# Altium integrated library Microchip PIC18.IntLib: 1897 symbols (part 36 of 110)
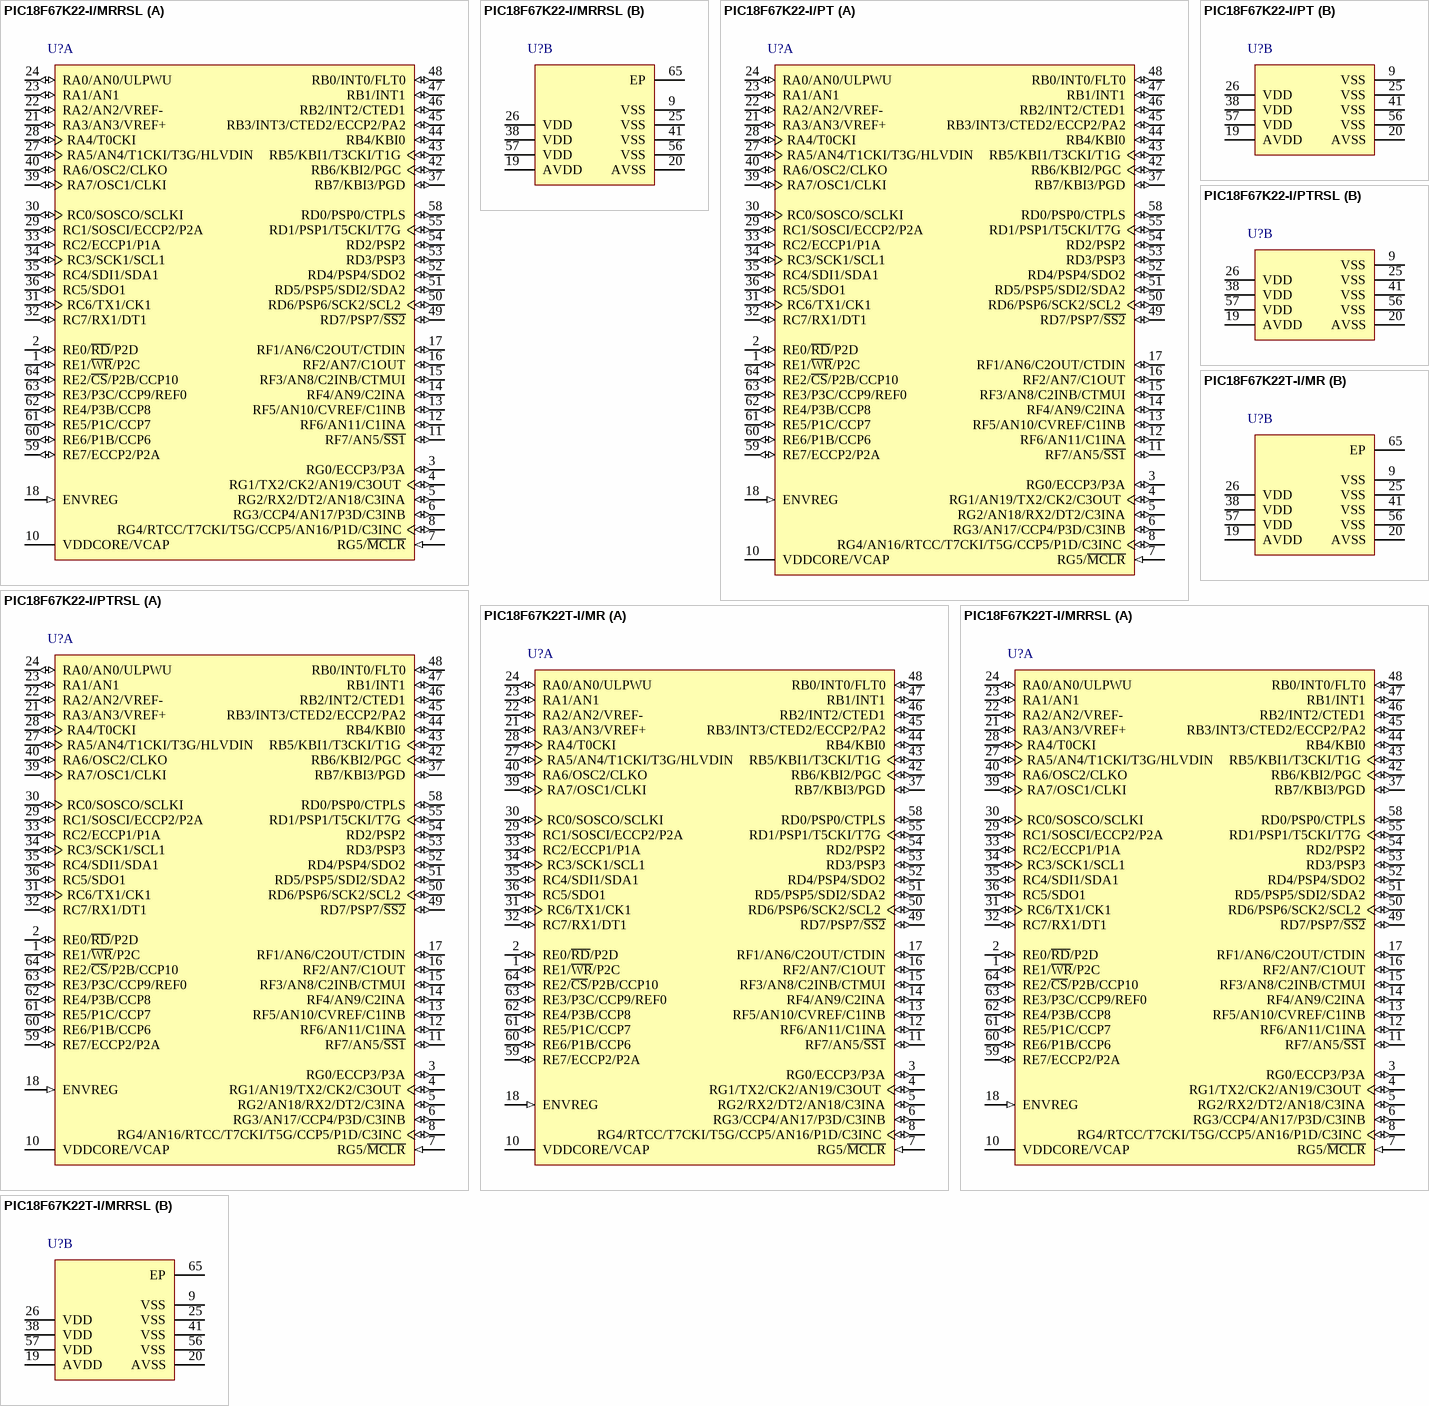
[diagram p340: symbols PIC18F67K22-I/MRRSL to PIC18F67K22T-I/MRRSL]

## PIC18F67K22T-I/MR
designator U?
High-Performance, 1-Mbit Enhanced Flash MCU with 12-Bit A/D and nanoWatt XLP Technology, 64 MHz, 53 I/O, -40 to 85 degC, 64-pin QFN (MR64), Tape and Reel; Manufacturer: Microchip; PartNumber: PIC18F67K22T-I/MR; # of A/D Channels: 16; Digital Communication: 2 -A/E/USART, 2 -MSSP(SPI/I2C); EEPROM Data Memory (bytes): 1024; I/O Pins: 53; Internal Oscillator: 16 MHz, 31 kHz; Max. CPU Speed MHz: 64; Operation Voltage Range: 1.8V - 5.5V; Packing: T/R; Program Memory KBytes: 128; RAM: 3862; Timers: 6 - 8-bit, 5 - 16-bit; DatasheetVersion: Rev. D; PackageVersion: C04-149C, 12/2012; PackageReference: QFN-MR64; PackageDescription: 64-Lead Plastic Quad Flat, 9 x 9 mm Body, 0.5 mm Pitch; Supplier 1: Digi-Key; Supplier Part Number 1: PIC18F67K22T-I/MR-ND; Supplier 2: Mouser; Supplier Part Number 2: 579-PIC18F67K22TI/MR; Memory Type: Flash; Program Memory KWords: 64; RoHS: TRUE; Mounting Technology: Surface Mount; ComponentLink1Description: Datasheet; ComponentLink1URL: http://ww1.microchip.com/downloads/en/DeviceDoc/39960d.pdf; ComponentLink2Description: Package Specification; ComponentLink2URL: http://www.microchip.com/stellent/groups/techpub_sg/documents/packagingspec/en012702.pdf; ComponentLink3Description: URL Link1; ComponentLink3URL: Product URL:http://www.microchip.com/datasheet/PIC18F67K22
footprint MCHP-QFN-MR64-7275X7275TP_N (QFN, 64-Leads, Body 9x9mm, Pitch 0.5mm, Thermal Pad 7.275x7.275mm, IPC Medium Density)
footprint MCHP-QFN-MR64-7275X7275TP_L (QFN, 64-Leads, Body 9x9mm, Pitch 0.5mm, Thermal Pad 7.275x7.275mm, IPC High Density)
footprint MCHP-QFN-MR64-7275X7275TP_M (QFN, 64-Leads, Body 9x9mm, Pitch 0.5mm, Thermal Pad 7.275x7.275mm, IPC Low Density)
part A pins: 1 RE1/~{WR}/P2C (io), 2 RE0/~{RD}/P2D (io), 3 RG0/ECCP3/P3A (io), 4 RG1/TX2/CK2/AN19/C3OUT (io), 5 RG2/RX2/DT2/AN18/C3INA (io), 6 RG3/CCP4/AN17/P3D/C3INB (io), 7 RG5/~{MCLR} (in), 8 RG4/RTCC/T7CKI/T5G/CCP5/AN16/P1D/C3INC (io), 10 VDDCORE/VCAP (power), 11 RF7/AN5/~{SS1} (io), 12 RF6/AN11/C1INA (io), 13 RF5/AN10/CVREF/C1INB (io), 14 RF4/AN9/C2INA (io), 15 RF3/AN8/C2INB/CTMUI (io), 16 RF2/AN7/C1OUT (io), 17 RF1/AN6/C2OUT/CTDIN (io), 18 ENVREG (in) "Enable for on-chip voltage regulator.", 21 RA3/AN3/VREF+ (io), 22 RA2/AN2/VREF- (io), 23 RA1/AN1 (io), 24 RA0/AN0/ULPWU (io), 27 RA5/AN4/T1CKI/T3G/HLVDIN (io), 28 RA4/T0CKI (io), 29 RC1/SOSCI/ECCP2/P2A (io), 30 RC0/SOSCO/SCLKI (io), 31 RC6/TX1/CK1 (io), 32 RC7/RX1/DT1 (io), 33 RC2/ECCP1/P1A (io), 34 RC3/SCK1/SCL1 (io), 35 RC4/SDI1/SDA1 (io), 36 RC5/SDO1 (io), 37 RB7/KBI3/PGD (io), 39 RA7/OSC1/CLKI (io), 40 RA6/OSC2/CLKO (io), 42 RB6/KBI2/PGC (io), 43 RB5/KBI1/T3CKI/T1G (io), 44 RB4/KBI0 (io), 45 RB3/INT3/CTED2/ECCP2/PA2 (io), 46 RB2/INT2/CTED1 (io), 47 RB1/INT1 (io), 48 RB0/INT0/FLT0 (io), 49 RD7/PSP7/~{SS2} (io), 50 RD6/PSP6/SCK2/SCL2 (io), 51 RD5/PSP5/SDI2/SDA2 (io), 52 RD4/PSP4/SDO2 (io), 53 RD3/PSP3 (io), 54 RD2/PSP2 (io), 55 RD1/PSP1/T5CKI/T7G (io), 58 RD0/PSP0/CTPLS (io), 59 RE7/ECCP2/P2A (io), 60 RE6/P1B/CCP6 (io), 61 RE5/P1C/CCP7 (io), 62 RE4/P3B/CCP8 (io), 63 RE3/P3C/CCP9/REF0 (io), 64 RE2/~{CS}/P2B/CCP10 (io)
part B pins: 9 VSS (power) "Ground reference for logic and I/O pins.", 19 AVDD (power) "Ground reference for analog modules.", 20 AVSS (power) "Positive supply for analog modules.", 25 VSS (power) "Ground reference for logic and I/O pins.", 26 VDD (power) "Positive supply for logic and I/O pins.", 38 VDD (power) "Positive supply for logic and I/O pins.", 41 VSS (power) "Ground reference for logic and I/O pins.", 56 VSS (power) "Ground reference for logic and I/O pins.", 57 VDD (power) "Positive supply for logic and I/O pins.", 65 EP

## PIC18F67K22T-I/MRRSL
designator U?
High-Performance, 1-Mbit Enhanced Flash MCU with 12-Bit A/D and nanoWatt XLP Technology, 64 MHz, 53 I/O, -40 to 85 degC, 64-pin QFN (MR64), Tape and Reel; Manufacturer: Microchip; PartNumber: PIC18F67K22T-I/MRRSL; # of A/D Channels: 16; Digital Communication: 2 -A/E/USART, 2 -MSSP(SPI/I2C); EEPROM Data Memory (bytes): 1024; I/O Pins: 53; Internal Oscillator: 16 MHz, 31 kHz; Max. CPU Speed MHz: 64; Operation Voltage Range: 1.8V - 5.5V; Packing: T/R; Program Memory KBytes: 128; RAM: 3862; Timers: 6 - 8-bit, 5 - 16-bit; DatasheetVersion: Rev. D; PackageVersion: C04-149C, 12/2012; PackageReference: QFN-MR64; PackageDescription: 64-Lead Plastic Quad Flat, 9 x 9 mm Body, 0.5 mm Pitch; Supplier 1: Digi-Key; Supplier Part Number 1: PIC18F67K22T-I/MRRSL-ND; Supplier 2: Mouser; Supplier Part Number 2: 579-PIC18F67K22TIMRR; Memory Type: Flash; Program Memory KWords: 64; RoHS: TRUE; Mounting Technology: Surface Mount; ComponentLink1Description: Datasheet; ComponentLink1URL: http://ww1.microchip.com/downloads/en/DeviceDoc/39960d.pdf; ComponentLink2Description: Package Specification; ComponentLink2URL: http://www.microchip.com/stellent/groups/techpub_sg/documents/packagingspec/en012702.pdf; ComponentLink3Description: URL Link1; ComponentLink3URL: Product URL:http://www.microchip.com/datasheet/PIC18F67K22
footprint MCHP-QFN-MR64-7275X7275TP_N (QFN, 64-Leads, Body 9x9mm, Pitch 0.5mm, Thermal Pad 7.275x7.275mm, IPC Medium Density)
footprint MCHP-QFN-MR64-7275X7275TP_L (QFN, 64-Leads, Body 9x9mm, Pitch 0.5mm, Thermal Pad 7.275x7.275mm, IPC High Density)
footprint MCHP-QFN-MR64-7275X7275TP_M (QFN, 64-Leads, Body 9x9mm, Pitch 0.5mm, Thermal Pad 7.275x7.275mm, IPC Low Density)
part A pins: 1 RE1/~{WR}/P2C (io), 2 RE0/~{RD}/P2D (io), 3 RG0/ECCP3/P3A (io), 4 RG1/TX2/CK2/AN19/C3OUT (io), 5 RG2/RX2/DT2/AN18/C3INA (io), 6 RG3/CCP4/AN17/P3D/C3INB (io), 7 RG5/~{MCLR} (in), 8 RG4/RTCC/T7CKI/T5G/CCP5/AN16/P1D/C3INC (io), 10 VDDCORE/VCAP (power), 11 RF7/AN5/~{SS1} (io), 12 RF6/AN11/C1INA (io), 13 RF5/AN10/CVREF/C1INB (io), 14 RF4/AN9/C2INA (io), 15 RF3/AN8/C2INB/CTMUI (io), 16 RF2/AN7/C1OUT (io), 17 RF1/AN6/C2OUT/CTDIN (io), 18 ENVREG (in) "Enable for on-chip voltage regulator.", 21 RA3/AN3/VREF+ (io), 22 RA2/AN2/VREF- (io), 23 RA1/AN1 (io), 24 RA0/AN0/ULPWU (io), 27 RA5/AN4/T1CKI/T3G/HLVDIN (io), 28 RA4/T0CKI (io), 29 RC1/SOSCI/ECCP2/P2A (io), 30 RC0/SOSCO/SCLKI (io), 31 RC6/TX1/CK1 (io), 32 RC7/RX1/DT1 (io), 33 RC2/ECCP1/P1A (io), 34 RC3/SCK1/SCL1 (io), 35 RC4/SDI1/SDA1 (io), 36 RC5/SDO1 (io), 37 RB7/KBI3/PGD (io), 39 RA7/OSC1/CLKI (io), 40 RA6/OSC2/CLKO (io), 42 RB6/KBI2/PGC (io), 43 RB5/KBI1/T3CKI/T1G (io), 44 RB4/KBI0 (io), 45 RB3/INT3/CTED2/ECCP2/PA2 (io), 46 RB2/INT2/CTED1 (io), 47 RB1/INT1 (io), 48 RB0/INT0/FLT0 (io), 49 RD7/PSP7/~{SS2} (io), 50 RD6/PSP6/SCK2/SCL2 (io), 51 RD5/PSP5/SDI2/SDA2 (io), 52 RD4/PSP4/SDO2 (io), 53 RD3/PSP3 (io), 54 RD2/PSP2 (io), 55 RD1/PSP1/T5CKI/T7G (io), 58 RD0/PSP0/CTPLS (io), 59 RE7/ECCP2/P2A (io), 60 RE6/P1B/CCP6 (io), 61 RE5/P1C/CCP7 (io), 62 RE4/P3B/CCP8 (io), 63 RE3/P3C/CCP9/REF0 (io), 64 RE2/~{CS}/P2B/CCP10 (io)
part B pins: 9 VSS (power) "Ground reference for logic and I/O pins.", 19 AVDD (power) "Ground reference for analog modules.", 20 AVSS (power) "Positive supply for analog modules.", 25 VSS (power) "Ground reference for logic and I/O pins.", 26 VDD (power) "Positive supply for logic and I/O pins.", 38 VDD (power) "Positive supply for logic and I/O pins.", 41 VSS (power) "Ground reference for logic and I/O pins.", 56 VSS (power) "Ground reference for logic and I/O pins.", 57 VDD (power) "Positive supply for logic and I/O pins.", 65 EP

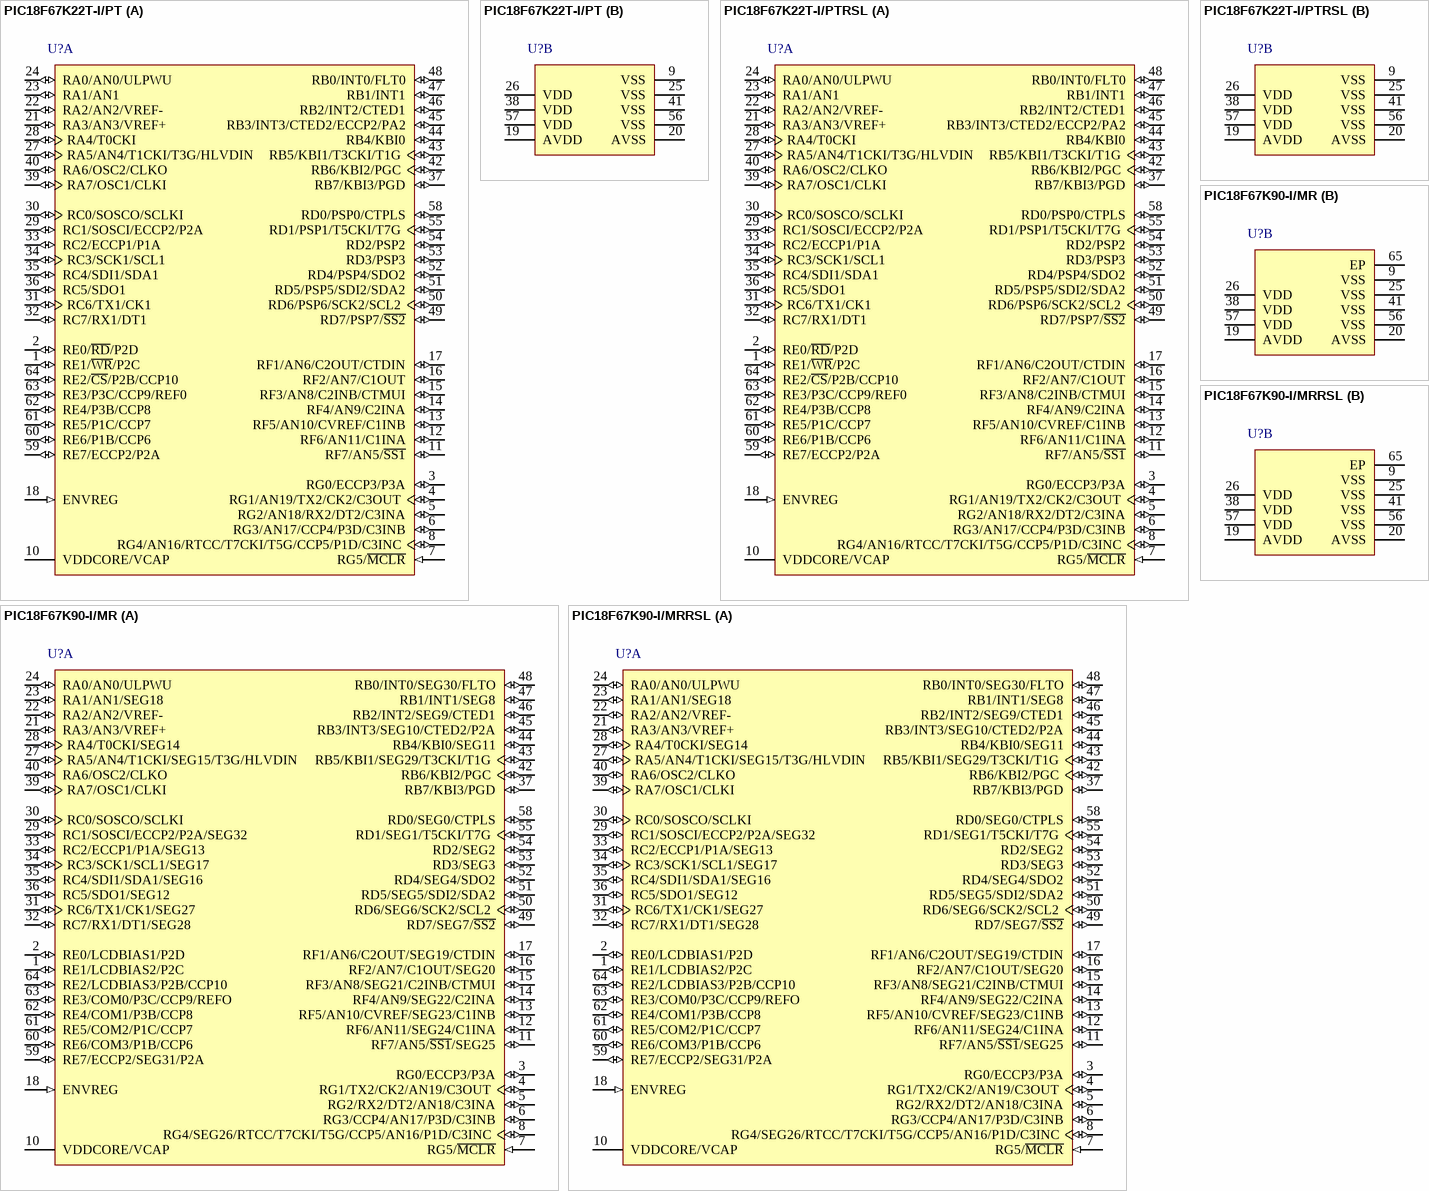
[diagram p60: symbols PIC18F67K22T-I/PT to PIC18F67K90-I/MRRSL]

## PIC18F67K22T-I/PT
designator U?
High-Performance, 1-Mbit Enhanced Flash MCU with 12-Bit A/D and nanoWatt XLP Technology, 64 MHz, 53 I/O, -40 to 85 degC, 64-pin TQFP (PT64), Tape and Reel; Manufacturer: Microchip; PartNumber: PIC18F67K22T-I/PT; # of A/D Channels: 16; Digital Communication: 2 -A/E/USART, 2 -MSSP(SPI/I2C); EEPROM Data Memory (bytes): 1024; I/O Pins: 53; Internal Oscillator: 16 MHz, 31 kHz; Max. CPU Speed MHz: 64; Operation Voltage Range: 1.8V - 5.5V; Packing: T/R; Program Memory KBytes: 128; RAM: 3862; Timers: 6 - 8-bit, 5 - 16-bit; DatasheetVersion: Rev. D; PackageVersion: C04-085B, 12/2012; PackageReference: TQFP-PT64; PackageDescription: 64-Lead Plastic Thin Quad FlatPack, 10 x 10 mm Body, 0.5 mm Pitch; Supplier 1: Digi-Key; Supplier Part Number 1: PIC18F67K22T-I/PT-ND; Supplier 2: Newark; Supplier Part Number 2: 25R8349; Supplier 3: Mouser; Supplier Part Number 3: 579-PIC18F67K22TI/PT; Memory Type: Flash; Program Memory KWords: 64; RoHS: TRUE; Mounting Technology: Surface Mount; ComponentLink1Description: Datasheet; ComponentLink1URL: http://ww1.microchip.com/downloads/en/DeviceDoc/39960d.pdf; ComponentLink2Description: Package Specification; ComponentLink2URL: http://www.microchip.com/stellent/groups/techpub_sg/documents/packagingspec/en012702.pdf; ComponentLink3Description: URL Link1; ComponentLink3URL: Product URL:http://www.microchip.com/datasheet/PIC18F67K22
footprint MCHP-TQFP-PT64_N (TQFP, 64-Leads, Body 10x10mm, Pitch 0.5mm, IPC Medium Density)
footprint MCHP-TQFP-PT64_L (TQFP, 64-Leads, Body 10x10mm, Pitch 0.5mm, IPC High Density)
footprint MCHP-TQFP-PT64_M (TQFP, 64-Leads, Body 10x10mm, Pitch 0.5mm, IPC Low Density)
part A pins: 1 RE1/~{WR}/P2C (io), 2 RE0/~{RD}/P2D (io), 3 RG0/ECCP3/P3A (io), 4 RG1/AN19/TX2/CK2/C3OUT (io), 5 RG2/AN18/RX2/DT2/C3INA (io), 6 RG3/AN17/CCP4/P3D/C3INB (io), 7 RG5/~{MCLR} (in), 8 RG4/AN16/RTCC/T7CKI/T5G/CCP5/P1D/C3INC (io), 10 VDDCORE/VCAP (power), 11 RF7/AN5/~{SS1} (io), 12 RF6/AN11/C1INA (io), 13 RF5/AN10/CVREF/C1INB (io), 14 RF4/AN9/C2INA (io), 15 RF3/AN8/C2INB/CTMUI (io), 16 RF2/AN7/C1OUT (io), 17 RF1/AN6/C2OUT/CTDIN (io), 18 ENVREG (in) "Enable for on-chip voltage regulator.", 21 RA3/AN3/VREF+ (io), 22 RA2/AN2/VREF- (io), 23 RA1/AN1 (io), 24 RA0/AN0/ULPWU (io), 27 RA5/AN4/T1CKI/T3G/HLVDIN (io), 28 RA4/T0CKI (io), 29 RC1/SOSCI/ECCP2/P2A (io), 30 RC0/SOSCO/SCLKI (io), 31 RC6/TX1/CK1 (io), 32 RC7/RX1/DT1 (io), 33 RC2/ECCP1/P1A (io), 34 RC3/SCK1/SCL1 (io), 35 RC4/SDI1/SDA1 (io), 36 RC5/SDO1 (io), 37 RB7/KBI3/PGD (io), 39 RA7/OSC1/CLKI (io), 40 RA6/OSC2/CLKO (io), 42 RB6/KBI2/PGC (io), 43 RB5/KBI1/T3CKI/T1G (io), 44 RB4/KBI0 (io), 45 RB3/INT3/CTED2/ECCP2/PA2 (io), 46 RB2/INT2/CTED1 (io), 47 RB1/INT1 (io), 48 RB0/INT0/FLT0 (io), 49 RD7/PSP7/~{SS2} (io), 50 RD6/PSP6/SCK2/SCL2 (io), 51 RD5/PSP5/SDI2/SDA2 (io), 52 RD4/PSP4/SDO2 (io), 53 RD3/PSP3 (io), 54 RD2/PSP2 (io), 55 RD1/PSP1/T5CKI/T7G (io), 58 RD0/PSP0/CTPLS (io), 59 RE7/ECCP2/P2A (io), 60 RE6/P1B/CCP6 (io), 61 RE5/P1C/CCP7 (io), 62 RE4/P3B/CCP8 (io), 63 RE3/P3C/CCP9/REF0 (io), 64 RE2/~{CS}/P2B/CCP10 (io)
part B pins: 9 VSS (power) "Ground reference for logic and I/O pins.", 19 AVDD (power) "Ground reference for analog modules.", 20 AVSS (power) "Positive supply for analog modules.", 25 VSS (power) "Ground reference for logic and I/O pins.", 26 VDD (power) "Positive supply for logic and I/O pins.", 38 VDD (power) "Positive supply for logic and I/O pins.", 41 VSS (power) "Ground reference for logic and I/O pins.", 56 VSS (power) "Ground reference for logic and I/O pins.", 57 VDD (power) "Positive supply for logic and I/O pins."

## PIC18F67K22T-I/PTRSL
designator U?
High-Performance, 1-Mbit Enhanced Flash MCU with 12-Bit A/D and nanoWatt XLP Technology, 64 MHz, 53 I/O, -40 to 85 degC, 64-pin TQFP (PT64), Tape and Reel; Manufacturer: Microchip; PartNumber: PIC18F67K22T-I/PTRSL; # of A/D Channels: 16; Digital Communication: 2 -A/E/USART, 2 -MSSP(SPI/I2C); EEPROM Data Memory (bytes): 1024; I/O Pins: 53; Internal Oscillator: 16 MHz, 31 kHz; Max. CPU Speed MHz: 64; Operation Voltage Range: 1.8V - 5.5V; Packing: T/R; Program Memory KBytes: 128; RAM: 3862; Timers: 6 - 8-bit, 5 - 16-bit; DatasheetVersion: Rev. D; PackageVersion: C04-085B, 12/2012; PackageReference: TQFP-PT64; PackageDescription: 64-Lead Plastic Thin Quad FlatPack, 10 x 10 mm Body, 0.5 mm Pitch; Supplier 1: Digi-Key; Supplier Part Number 1: PIC18F67K22T-I/PTRSL-ND; Supplier 2: Mouser; Supplier Part Number 2: 579-PIC18F67K22TIPTR; Memory Type: Flash; Program Memory KWords: 64; RoHS: TRUE; Mounting Technology: Surface Mount; ComponentLink1Description: Datasheet; ComponentLink1URL: http://ww1.microchip.com/downloads/en/DeviceDoc/39960d.pdf; ComponentLink2Description: Package Specification; ComponentLink2URL: http://www.microchip.com/stellent/groups/techpub_sg/documents/packagingspec/en012702.pdf; ComponentLink3Description: URL Link1; ComponentLink3URL: Product URL:http://www.microchip.com/datasheet/PIC18F67K22
footprint MCHP-TQFP-PT64_N (TQFP, 64-Leads, Body 10x10mm, Pitch 0.5mm, IPC Medium Density)
footprint MCHP-TQFP-PT64_L (TQFP, 64-Leads, Body 10x10mm, Pitch 0.5mm, IPC High Density)
footprint MCHP-TQFP-PT64_M (TQFP, 64-Leads, Body 10x10mm, Pitch 0.5mm, IPC Low Density)
part A pins: 1 RE1/~{WR}/P2C (io), 2 RE0/~{RD}/P2D (io), 3 RG0/ECCP3/P3A (io), 4 RG1/AN19/TX2/CK2/C3OUT (io), 5 RG2/AN18/RX2/DT2/C3INA (io), 6 RG3/AN17/CCP4/P3D/C3INB (io), 7 RG5/~{MCLR} (in), 8 RG4/AN16/RTCC/T7CKI/T5G/CCP5/P1D/C3INC (io), 10 VDDCORE/VCAP (power), 11 RF7/AN5/~{SS1} (io), 12 RF6/AN11/C1INA (io), 13 RF5/AN10/CVREF/C1INB (io), 14 RF4/AN9/C2INA (io), 15 RF3/AN8/C2INB/CTMUI (io), 16 RF2/AN7/C1OUT (io), 17 RF1/AN6/C2OUT/CTDIN (io), 18 ENVREG (in) "Enable for on-chip voltage regulator.", 21 RA3/AN3/VREF+ (io), 22 RA2/AN2/VREF- (io), 23 RA1/AN1 (io), 24 RA0/AN0/ULPWU (io), 27 RA5/AN4/T1CKI/T3G/HLVDIN (io), 28 RA4/T0CKI (io), 29 RC1/SOSCI/ECCP2/P2A (io), 30 RC0/SOSCO/SCLKI (io), 31 RC6/TX1/CK1 (io), 32 RC7/RX1/DT1 (io), 33 RC2/ECCP1/P1A (io), 34 RC3/SCK1/SCL1 (io), 35 RC4/SDI1/SDA1 (io), 36 RC5/SDO1 (io), 37 RB7/KBI3/PGD (io), 39 RA7/OSC1/CLKI (io), 40 RA6/OSC2/CLKO (io), 42 RB6/KBI2/PGC (io), 43 RB5/KBI1/T3CKI/T1G (io), 44 RB4/KBI0 (io), 45 RB3/INT3/CTED2/ECCP2/PA2 (io), 46 RB2/INT2/CTED1 (io), 47 RB1/INT1 (io), 48 RB0/INT0/FLT0 (io), 49 RD7/PSP7/~{SS2} (io), 50 RD6/PSP6/SCK2/SCL2 (io), 51 RD5/PSP5/SDI2/SDA2 (io), 52 RD4/PSP4/SDO2 (io), 53 RD3/PSP3 (io), 54 RD2/PSP2 (io), 55 RD1/PSP1/T5CKI/T7G (io), 58 RD0/PSP0/CTPLS (io), 59 RE7/ECCP2/P2A (io), 60 RE6/P1B/CCP6 (io), 61 RE5/P1C/CCP7 (io), 62 RE4/P3B/CCP8 (io), 63 RE3/P3C/CCP9/REF0 (io), 64 RE2/~{CS}/P2B/CCP10 (io)
part B pins: 9 VSS (power) "Ground reference for logic and I/O pins.", 19 AVDD (power) "Ground reference for analog modules.", 20 AVSS (power) "Positive supply for analog modules.", 25 VSS (power) "Ground reference for logic and I/O pins.", 26 VDD (power) "Positive supply for logic and I/O pins.", 38 VDD (power) "Positive supply for logic and I/O pins.", 41 VSS (power) "Ground reference for logic and I/O pins.", 56 VSS (power) "Ground reference for logic and I/O pins.", 57 VDD (power) "Positive supply for logic and I/O pins."